# EAGLE library part HD-A515R (library moje)
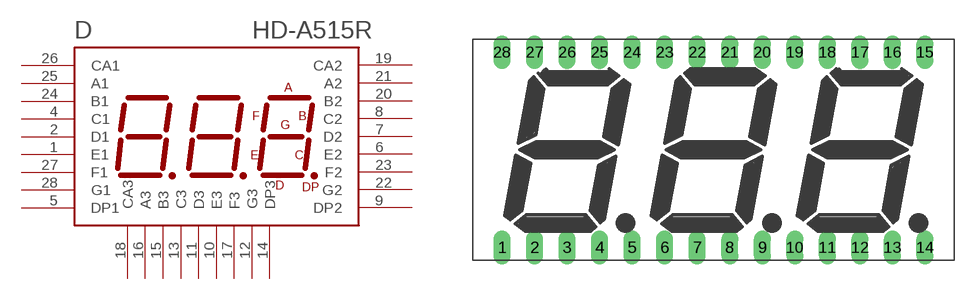
[diagram p3: symbol with the pads of DIL18SE3; footprint DIL18SE3]

Designator prefix D

## HD-A515R  [DIL18SE3]
1  E1
2  D1
4  C1
5  DP1
6  E2
7  D2
8  C2
9  DP2
10  E3
11  D3
12  G3
13  C3
14  DP3
15  B3
16  A3
17  F3
18  CA3
19  CA2
20  B2
21  A2
22  G2
23  F2
24  B1
25  A1
26  CA1
27  F1
28  G1

## Footprint DIL18SE3 (pad centres in mm)
drill 0.813 pad 1.27 long: 1 -16.51,-7.62; 2 -13.97,-7.62; 3 -11.43,-7.62; 4 -8.89,-7.62; 5 -6.35,-7.62; 6 -3.81,-7.62; 7 -1.27,-7.62; 8 1.27,-7.62; 9 3.81,-7.62; 10 6.35,-7.62; 11 8.89,-7.62; 12 11.43,-7.62; 13 13.97,-7.62; 14 16.51,-7.62; 15 16.51,7.62; 16 13.97,7.62; 17 11.43,7.62; 18 8.89,7.62; 19 6.35,7.62; 20 3.81,7.62; 21 1.27,7.62; 22 -1.27,7.62; 23 -3.81,7.62; 24 -6.35,7.62; 25 -8.89,7.62; 26 -11.43,7.62; 27 -13.97,7.62; 28 -16.51,7.62